# Altium footprint library PCB_MBED.PcbLib: 1 footprints
Each footprint in its own frame and in the unit in brackets; x right, y up, seen from the top. Pads: shape width x height; smd on the part's side, far side on the other; paste and mask are expansions set on the pad; w line width, h text height; cw(c..) or ccw(c..) is an arc to the next point about the centre after c.
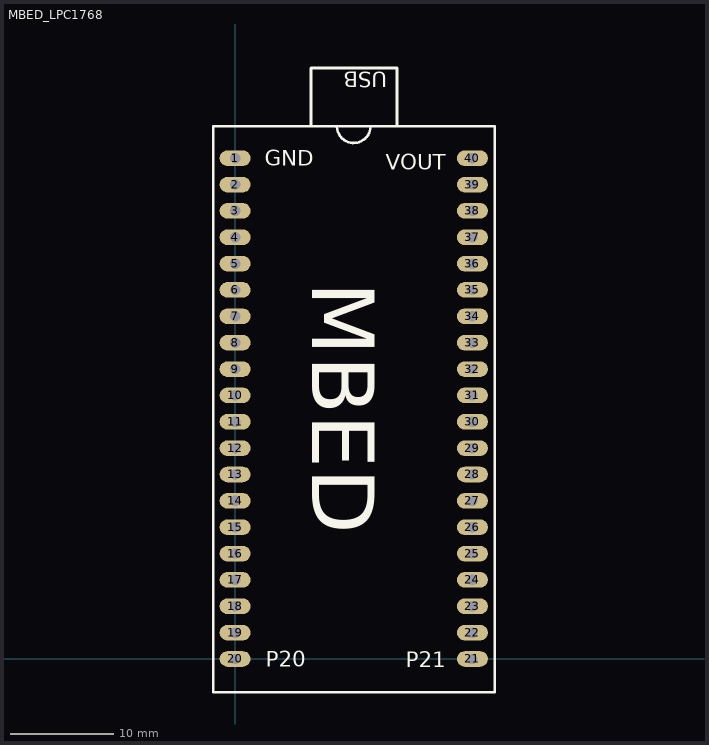
[diagram p0: the footprint, top view; thin cyan lines are the x and y axes]

## MBED_LPC1768 [mm]
pads (40):
  oval 3x1.5 hole 1: 1(0,48.26) 2(0,45.72) 3(0,43.18) 4(0,40.64) 5(0,38.1) 6(0,35.56) 7(0,33.02) 8(0,30.48) 9(0,27.94) 10(0,25.4) 11(0,22.86) 12(0,20.32) 13(0,17.78) 14(0,15.24) 15(0,12.7) 16(0,10.16) 17(0,7.62) 18(0,5.08) 19(0,2.54) 20(0,0) 21(22.86,0) 22(22.86,2.54) 23(22.86,5.08) 24(22.86,7.62) 25(22.86,10.16) 26(22.86,12.7) 27(22.86,15.24) 28(22.86,17.78) 29(22.86,20.32) 30(22.86,22.86) 31(22.86,25.4) 32(22.86,27.94) 33(22.86,30.48) 34(22.86,33.02) 35(22.86,35.56) 36(22.86,38.1) 37(22.86,40.64) 38(22.86,43.18) 39(22.86,45.72) 40(22.86,48.26)
Top Overlay:
  lines w0.254: 7.3,51.35 7.3,56.95 15.6,56.95 15.6,51.35 ; 9.804,51.253 ccw(c11.425,51.35) 13.048,51.3 ; -2.1,-3.2 -2.1,51.35 4.588,51.35 18.262,51.35 25,51.35 25,-3.2 -2.1,-3.2
  text "VOUT" at 14.5,47.15 h1.52
  text "P20" at 2.95,-0.75 h1.52
  text "USB" at 14.65,56.6 h1.52
  text "MBED" at 7.426,36.35 h6
  text "GND" at 2.85,47.55 h1.52
  text "P21" at 16.45,-0.8 h1.52
3D body "MBED.STEP": height 8.34, standoff -3.3, extent -1.6,-2.883 24.4,52.9